# Altium integrated library Linear Technology Power Management Power Control.IntLib: 661 symbols (part 43 of 43)
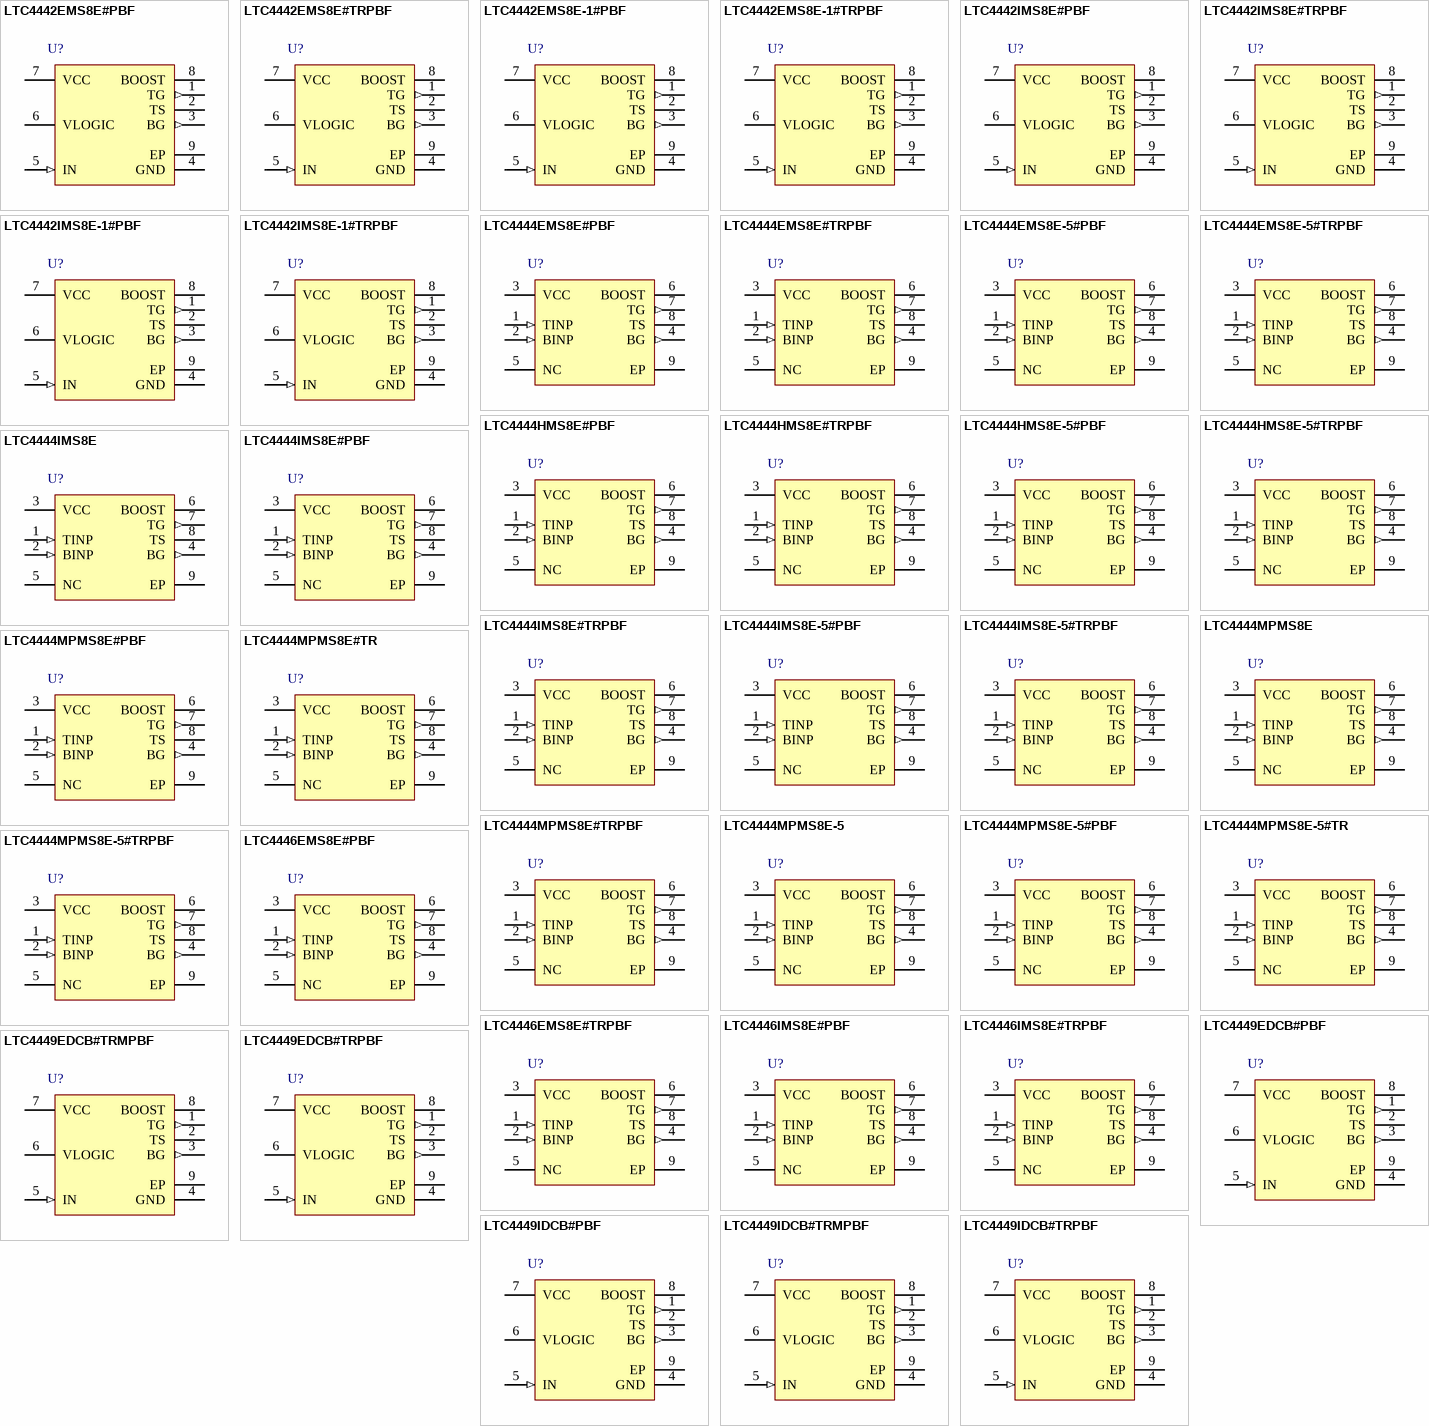
[diagram p61: symbols LTC4442EMS8E#PBF to LTC4449IDCB#TRPBF]

## LTC4444MPMS8E-5#TR
designator U?
High Voltage Synchronous N-Channel MOSFET Driver, 114 V Vin MAX, 8-pin SOP (MS8E-8-EDP), -55 to 150 degC, Tape and Reel; Manufacturer: Linear Technology; PartNumber: LTC4444MPMS8E-5#TR; DatasheetVersion: Rev. C; PackageVersion: Rev. J, 10/2011; PackageReference: MS8E-8; PackageDescription: 8-Pin Plastic MSOP, Body 3.00 x 3.00 mm. Pitch 0.65 mm; Packing: Tape and Reel; RoHS: FALSE; Mounting Technology: Surface Mount; ComponentLink1Description: Manufacturer URL; ComponentLink1URL: http://www.linear.com/; ComponentLink2Description: Datasheet; ComponentLink2URL: http://cds.linear.com/docs/en/datasheet/44445fc.pdf; ComponentLink3Description: Package Specification; ComponentLink3URL: http://cds.linear.com/docs/en/packaging/05081662_K_MS8E.pdf
footprint LT-MS8E-8-EDP_N (SOP, 8-Leads, Body 3.1x3.1mm, Pitch 0.65mm, Thermal Pad 1.88x1.68mm, IPC Medium Density)
footprint LT-MS8E-8-EDP_L (SOP, 8-Leads, Body 3.1x3.1mm, Pitch 0.65mm, Thermal Pad 1.88x1.68mm, IPC High Density)
footprint LT-MS8E-8-EDP_M (SOP, 8-Leads, Body 3.1x3.1mm, Pitch 0.65mm, Thermal Pad 1.88x1.68mm, IPC Low Density)
pins: 1 TINP (in) "High Side Input Signal. Input referenced to GND. This input controls the high side driver output (TG).", 2 BINP (in) "Low Side Input Signal. This input controls the low side driver output (BG).", 3 VCC (power) "Supply. This pin powers input buffers, logic and the low side gate driver output directly and the high side gate driver output through an external diode connected between this pin and BOOST (Pin 6). A low ESR ceramic bypass (See Datasheet)", 4 BG (out) "Low Side Gate Driver Output (Bottom Gate).This pin swings between VCC and GND.", 5 NC "No Connect. No connection required.", 6 BOOST "High Side Bootstrapped Supply. An external capacitor should be tied between this pin and TS (Pin 8). Normally, a bootstrap diode is connected between VCC (Pin 3) and this pin. Voltage swing at this pin is from VCC - VD to (See Datasheet)", 7 TG (out) "High Side Gate Driver Output (Top Gate). This pin swings between TS and BOOST.", 8 TS "High Side MOSFET Source Connection (TopSource)", 9 EP (power) "Ground. Must be soldered to PCB ground for optimal thermal performance."

## LTC4444MPMS8E-5#TRPBF
designator U?
High Voltage Synchronous N-Channel MOSFET Driver, 114 V Vin MAX, 8-pin SOP (MS8E-8-EDP), -55 to 150 degC, Pb-Free, Tape and Reel; Manufacturer: Linear Technology; PartNumber: LTC4444MPMS8E-5#TRPBF; DatasheetVersion: Rev. C; PackageVersion: Rev. J, 10/2011; PackageReference: MS8E-8; PackageDescription: 8-Pin Plastic MSOP, Body 3.00 x 3.00 mm. Pitch 0.65 mm; Supplier 1: Digi-Key; Supplier Part Number 1: LTC4444MPMS8E-5#TRPBF-ND; Packing: Tape and Reel; RoHS: TRUE; Mounting Technology: Surface Mount; ComponentLink1Description: Manufacturer URL; ComponentLink1URL: http://www.linear.com/; ComponentLink2Description: Datasheet; ComponentLink2URL: http://cds.linear.com/docs/en/datasheet/44445fc.pdf; ComponentLink3Description: Package Specification; ComponentLink3URL: http://cds.linear.com/docs/en/packaging/05081662_K_MS8E.pdf
footprint LT-MS8E-8-EDP_N (SOP, 8-Leads, Body 3.1x3.1mm, Pitch 0.65mm, Thermal Pad 1.88x1.68mm, IPC Medium Density)
footprint LT-MS8E-8-EDP_L (SOP, 8-Leads, Body 3.1x3.1mm, Pitch 0.65mm, Thermal Pad 1.88x1.68mm, IPC High Density)
footprint LT-MS8E-8-EDP_M (SOP, 8-Leads, Body 3.1x3.1mm, Pitch 0.65mm, Thermal Pad 1.88x1.68mm, IPC Low Density)
pins: 1 TINP (in) "High Side Input Signal. Input referenced to GND. This input controls the high side driver output (TG).", 2 BINP (in) "Low Side Input Signal. This input controls the low side driver output (BG).", 3 VCC (power) "Supply. This pin powers input buffers, logic and the low side gate driver output directly and the high side gate driver output through an external diode connected between this pin and BOOST (Pin 6). A low ESR ceramic bypass (See Datasheet)", 4 BG (out) "Low Side Gate Driver Output (Bottom Gate).This pin swings between VCC and GND.", 5 NC "No Connect. No connection required.", 6 BOOST "High Side Bootstrapped Supply. An external capacitor should be tied between this pin and TS (Pin 8). Normally, a bootstrap diode is connected between VCC (Pin 3) and this pin. Voltage swing at this pin is from VCC - VD to (See Datasheet)", 7 TG (out) "High Side Gate Driver Output (Top Gate). This pin swings between TS and BOOST.", 8 TS "High Side MOSFET Source Connection (TopSource)", 9 EP (power) "Ground. Must be soldered to PCB ground for optimal thermal performance."

## LTC4446EMS8E#PBF
designator U?
High Voltage High Side / Low Side N-Channel MOSFET Driver, 114 V Vin MAX, 8-pin SOP (MS8E-8), -40 to 85 degC, Pb-Free; Manufacturer: Linear Technology; PartNumber: LTC4446EMS8E#PBF; PackageVersion: Rev. E; PackageReference: MS8E-8; PackageDescription: 8-Pin Plastic MSOP, Exposed Die Pad, Body 3 x 3 mm, Pitch 0.65 mm; Supplier 1: Digi-Key; Supplier Part Number 1: LTC4446EMS8E#PBF-ND; Supplier 2: Farnell; Supplier Part Number 2: 1715080; Supplier 3: Newark; Supplier Part Number 3: 01N6429; RoHS: TRUE; Mounting Technology: Surface Mount; ComponentLink1Description: Manufacturer URL; ComponentLink1URL: http://www.linear.com/; ComponentLink2Description: Datasheet; ComponentLink2URL: http://cds.linear.com/docs/en/datasheet/4446f.pdf; ComponentLink3Description: Package Specification; ComponentLink3URL: http://cds.linear.com/docs/en/datasheet/4070fc.pdf
footprint LT-MS8E-8-2060X1830TP_N (SOP, 8-Leads, Body 3.1x3.1mm, Pitch 0.65mm, Thermal Pad 2.162x1.932mm, IPC Medium Density)
footprint LT-MS8E-8-2060X1830TP_L (SOP, 8-Leads, Body 3.1x3.1mm, Pitch 0.65mm, Thermal Pad 2.162x1.932mm, IPC High Density)
footprint LT-MS8E-8-2060X1830TP_M (SOP, 8-Leads, Body 3.1x3.1mm, Pitch 0.65mm, Thermal Pad 2.162x1.932mm, IPC Low Density)
pins: 1 TINP (in) "High Side Input Signal. Input referenced to GND. This input controls the high side driver output (TG).", 2 BINP (in) "Low Side Input Signal. This input controls the low side driver output (BG).", 3 VCC (power) "Supply. This pin powers input buffers, logic and the low side gate driver output directly and the high side gate driver output through an external diode connected between this pin and BOOST (Pin 6). A low ESR ceramic bypass (See Datasheet)", 4 BG (out) "Low Side Gate Driver Output (Bottom Gate).This pin swings between VCC and GND.", 5 NC "No Connect. No connection required.", 6 BOOST "High Side Bootstrapped Supply. An external capacitor should be tied between this pin and TS (Pin 8). Normally, a bootstrap diode is connected between VCC (Pin 3) and this pin. Voltage swing at this pin is from VCC - VD to (See Datasheet)", 7 TG (out) "High Side Gate Driver Output (Top Gate). This pin swings between TS and BOOST.", 8 TS "High Side MOSFET Source Connection (TopSource)", 9 EP (power) "Ground. Must be soldered to PCB ground for optimal thermal performance."

## LTC4446EMS8E#TRPBF
designator U?
High Voltage High Side / Low Side N-Channel MOSFET Driver, 114 V Vin MAX, 8-pin SOP (MS8E-8), -40 to 85 degC, Pb-Free, Tape and Reel; Manufacturer: Linear Technology; PartNumber: LTC4446EMS8E#TRPBF; PackageVersion: Rev. E; PackageReference: MS8E-8; PackageDescription: 8-Pin Plastic MSOP, Exposed Die Pad, Body 3 x 3 mm, Pitch 0.65 mm; Supplier 1: Digi-Key; Supplier Part Number 1: LTC4446EMS8E#TRPBF-ND; Packing: Tape and Reel; RoHS: TRUE; Mounting Technology: Surface Mount; ComponentLink1Description: Manufacturer URL; ComponentLink1URL: http://www.linear.com/; ComponentLink2Description: Datasheet; ComponentLink2URL: http://cds.linear.com/docs/en/datasheet/4446f.pdf; ComponentLink3Description: Package Specification; ComponentLink3URL: http://cds.linear.com/docs/en/datasheet/4070fc.pdf
footprint LT-MS8E-8-2060X1830TP_N (SOP, 8-Leads, Body 3.1x3.1mm, Pitch 0.65mm, Thermal Pad 2.162x1.932mm, IPC Medium Density)
footprint LT-MS8E-8-2060X1830TP_L (SOP, 8-Leads, Body 3.1x3.1mm, Pitch 0.65mm, Thermal Pad 2.162x1.932mm, IPC High Density)
footprint LT-MS8E-8-2060X1830TP_M (SOP, 8-Leads, Body 3.1x3.1mm, Pitch 0.65mm, Thermal Pad 2.162x1.932mm, IPC Low Density)
pins: 1 TINP (in) "High Side Input Signal. Input referenced to GND. This input controls the high side driver output (TG).", 2 BINP (in) "Low Side Input Signal. This input controls the low side driver output (BG).", 3 VCC (power) "Supply. This pin powers input buffers, logic and the low side gate driver output directly and the high side gate driver output through an external diode connected between this pin and BOOST (Pin 6). A low ESR ceramic bypass (See Datasheet)", 4 BG (out) "Low Side Gate Driver Output (Bottom Gate).This pin swings between VCC and GND.", 5 NC "No Connect. No connection required.", 6 BOOST "High Side Bootstrapped Supply. An external capacitor should be tied between this pin and TS (Pin 8). Normally, a bootstrap diode is connected between VCC (Pin 3) and this pin. Voltage swing at this pin is from VCC - VD to (See Datasheet)", 7 TG (out) "High Side Gate Driver Output (Top Gate). This pin swings between TS and BOOST.", 8 TS "High Side MOSFET Source Connection (TopSource)", 9 EP (power) "Ground. Must be soldered to PCB ground for optimal thermal performance."

## LTC4446IMS8E#PBF
designator U?
High Voltage High Side / Low Side N-Channel MOSFET Driver, 114 V Vin MAX, 8-pin SOP (MS8E-8), -40 to 85 degC, Pb-Free; Manufacturer: Linear Technology; PartNumber: LTC4446IMS8E#PBF; PackageVersion: Rev. E; PackageReference: MS8E-8; PackageDescription: 8-Pin Plastic MSOP, Exposed Die Pad, Body 3 x 3 mm, Pitch 0.65 mm; Supplier 1: Digi-Key; Supplier Part Number 1: LTC4446IMS8E#PBF-ND; RoHS: TRUE; Mounting Technology: Surface Mount; ComponentLink1Description: Manufacturer URL; ComponentLink1URL: http://www.linear.com/; ComponentLink2Description: Datasheet; ComponentLink2URL: http://cds.linear.com/docs/en/datasheet/4446f.pdf; ComponentLink3Description: Package Specification; ComponentLink3URL: http://cds.linear.com/docs/en/datasheet/4070fc.pdf
footprint LT-MS8E-8-2060X1830TP_N (SOP, 8-Leads, Body 3.1x3.1mm, Pitch 0.65mm, Thermal Pad 2.162x1.932mm, IPC Medium Density)
footprint LT-MS8E-8-2060X1830TP_L (SOP, 8-Leads, Body 3.1x3.1mm, Pitch 0.65mm, Thermal Pad 2.162x1.932mm, IPC High Density)
footprint LT-MS8E-8-2060X1830TP_M (SOP, 8-Leads, Body 3.1x3.1mm, Pitch 0.65mm, Thermal Pad 2.162x1.932mm, IPC Low Density)
pins: 1 TINP (in) "High Side Input Signal. Input referenced to GND. This input controls the high side driver output (TG).", 2 BINP (in) "Low Side Input Signal. This input controls the low side driver output (BG).", 3 VCC (power) "Supply. This pin powers input buffers, logic and the low side gate driver output directly and the high side gate driver output through an external diode connected between this pin and BOOST (Pin 6). A low ESR ceramic bypass (See Datasheet)", 4 BG (out) "Low Side Gate Driver Output (Bottom Gate).This pin swings between VCC and GND.", 5 NC "No Connect. No connection required.", 6 BOOST "High Side Bootstrapped Supply. An external capacitor should be tied between this pin and TS (Pin 8). Normally, a bootstrap diode is connected between VCC (Pin 3) and this pin. Voltage swing at this pin is from VCC - VD to (See Datasheet)", 7 TG (out) "High Side Gate Driver Output (Top Gate). This pin swings between TS and BOOST.", 8 TS "High Side MOSFET Source Connection (TopSource)", 9 EP (power) "Ground. Must be soldered to PCB ground for optimal thermal performance."

## LTC4446IMS8E#TRPBF
designator U?
High Voltage High Side / Low Side N-Channel MOSFET Driver, 114 V Vin MAX, 8-pin SOP (MS8E-8), -40 to 85 degC, Pb-Free, Tape and Reel; Manufacturer: Linear Technology; PartNumber: LTC4446IMS8E#TRPBF; PackageVersion: Rev. E; PackageReference: MS8E-8; PackageDescription: 8-Pin Plastic MSOP, Exposed Die Pad, Body 3 x 3 mm, Pitch 0.65 mm; Supplier 1: Digi-Key; Supplier Part Number 1: LTC4446IMS8E#TRPBF-ND; Supplier 2: Newark; Supplier Part Number 2: 01N6432; Packing: Tape and Reel; RoHS: TRUE; Mounting Technology: Surface Mount; ComponentLink1Description: Manufacturer URL; ComponentLink1URL: http://www.linear.com/; ComponentLink2Description: Datasheet; ComponentLink2URL: http://cds.linear.com/docs/en/datasheet/4446f.pdf; ComponentLink3Description: Package Specification; ComponentLink3URL: http://cds.linear.com/docs/en/datasheet/4070fc.pdf
footprint LT-MS8E-8-2060X1830TP_N (SOP, 8-Leads, Body 3.1x3.1mm, Pitch 0.65mm, Thermal Pad 2.162x1.932mm, IPC Medium Density)
footprint LT-MS8E-8-2060X1830TP_L (SOP, 8-Leads, Body 3.1x3.1mm, Pitch 0.65mm, Thermal Pad 2.162x1.932mm, IPC High Density)
footprint LT-MS8E-8-2060X1830TP_M (SOP, 8-Leads, Body 3.1x3.1mm, Pitch 0.65mm, Thermal Pad 2.162x1.932mm, IPC Low Density)
pins: 1 TINP (in) "High Side Input Signal. Input referenced to GND. This input controls the high side driver output (TG).", 2 BINP (in) "Low Side Input Signal. This input controls the low side driver output (BG).", 3 VCC (power) "Supply. This pin powers input buffers, logic and the low side gate driver output directly and the high side gate driver output through an external diode connected between this pin and BOOST (Pin 6). A low ESR ceramic bypass (See Datasheet)", 4 BG (out) "Low Side Gate Driver Output (Bottom Gate).This pin swings between VCC and GND.", 5 NC "No Connect. No connection required.", 6 BOOST "High Side Bootstrapped Supply. An external capacitor should be tied between this pin and TS (Pin 8). Normally, a bootstrap diode is connected between VCC (Pin 3) and this pin. Voltage swing at this pin is from VCC - VD to (See Datasheet)", 7 TG (out) "High Side Gate Driver Output (Top Gate). This pin swings between TS and BOOST.", 8 TS "High Side MOSFET Source Connection (TopSource)", 9 EP (power) "Ground. Must be soldered to PCB ground for optimal thermal performance."

## LTC4449EDCB#PBF
designator U?
High Speed Synchronous N-Channel MOSFET Driver, 38 V Vin MAX, 8-pin SON (DCB-8), -40 to 125 degC, Pb-Free; Manufacturer: Linear Technology; PartNumber: LTC4449EDCB#PBF; DatasheetVersion: Rev. A; PackageVersion: Rev. A, 06/2010; PackageReference: DCB-8; PackageDescription: 8-Pin Plastic DFN, Body 2 x 3 mm, Pitch 0.45 mm; Supplier 1: Newark; Supplier Part Number 1: 64R5085; RoHS: TRUE; Mounting Technology: Surface Mount; ComponentLink1Description: Manufacturer URL; ComponentLink1URL: http://www.linear.com/; ComponentLink2Description: Datasheet; ComponentLink2URL: http://cds.linear.com/docs/en/datasheet/4449fa.pdf; ComponentLink3Description: Package Specification; ComponentLink3URL: http://cds.linear.com/docs/en/packaging/DFN_8_05-08-1718.pdf
footprint LT-DCB-8_V (SON, 8-Leads, Body 3x2mm, Pitch 0.45mm, Thermal Pad 1.65x1.35mm)
pins: 1 TG (out) "High Side Gate Driver Output (Top Gate). This pin swings between TS and BOOST.", 2 TS "High Side MOSFET Source Connection (TopSource)", 3 BG (out) "Low Side Gate Driver Output (Bottom Gate).This pin swings between VCC and GND.", 4 GND (power) "Chip Ground.", 5 IN (in) "Input Signal. Input referenced to an internal supply baised off of VLOGIC (Pin 6) and GND. If this pin is floating, an internal resistive divider triggers a shutdown mode in which both BG (Pin 3) and TG (Pin 1) are pulled (See Datasheet)", 6 VLOGIC (power) "Logic Supply. This pin powers the input buffer and logic. Connect this pin to the power supply of the controller that is driving IN (Pin 5) to match input thresholds or to VCC (Pin 7) to simplify PCB routing", 7 VCC (power) "Output Driver Supply. This pin powers the low side gate driver output directly and the high side gate driver output through an external Schottky diode connected between this pin and BOOST. A low ESR ceramic bypass capacitor (See Datasheet)", 8 BOOST "High Side Bootstrapped Supply. An external capacitor should be tied between this pin and TS (Pin 2). Normally an external Schottky diode is connected between VCC (Pin 7) and this pin. Voltage swing at this pin is from VCC - (See Datasheet)", 9 EP (power) "The exposed pad must be soldered to PCB ground for optimal electrical and thermal performance"

## LTC4449EDCB#TRMPBF
designator U?
High Speed Synchronous N-Channel MOSFET Driver, 38 V Vin MAX, 8-pin SON (DCB-8), -40 to 125 degC, Pb-Free, Mini Tape and Reel; Manufacturer: Linear Technology; PartNumber: LTC4449EDCB#TRMPBF; DatasheetVersion: Rev. A; PackageVersion: Rev. A, 06/2010; PackageReference: DCB-8; PackageDescription: 8-Pin Plastic DFN, Body 2 x 3 mm, Pitch 0.45 mm; Supplier 1: Digi-Key; Supplier Part Number 1: LTC4449EDCB#TRMPBFTR-ND; Supplier 2: Digi-Key; Supplier Part Number 2: LTC4449EDCB#TRMPBFCT-ND; Supplier 3: Digi-Key; Supplier Part Number 3: LTC4449EDCB#TRMPBFDKR-ND; Supplier 4: Newark; Supplier Part Number 4: 63R6819; Packing: Mini Tape and Reel; RoHS: TRUE; Mounting Technology: Surface Mount; ComponentLink1Description: Manufacturer URL; ComponentLink1URL: http://www.linear.com/; ComponentLink2Description: Datasheet; ComponentLink2URL: http://cds.linear.com/docs/en/datasheet/4449fa.pdf; ComponentLink3Description: Package Specification; ComponentLink3URL: http://cds.linear.com/docs/en/packaging/DFN_8_05-08-1718.pdf
footprint LT-DCB-8_V (SON, 8-Leads, Body 3x2mm, Pitch 0.45mm, Thermal Pad 1.65x1.35mm)
pins: 1 TG (out) "High Side Gate Driver Output (Top Gate). This pin swings between TS and BOOST.", 2 TS "High Side MOSFET Source Connection (TopSource)", 3 BG (out) "Low Side Gate Driver Output (Bottom Gate).This pin swings between VCC and GND.", 4 GND (power) "Chip Ground.", 5 IN (in) "Input Signal. Input referenced to an internal supply baised off of VLOGIC (Pin 6) and GND. If this pin is floating, an internal resistive divider triggers a shutdown mode in which both BG (Pin 3) and TG (Pin 1) are pulled (See Datasheet)", 6 VLOGIC (power) "Logic Supply. This pin powers the input buffer and logic. Connect this pin to the power supply of the controller that is driving IN (Pin 5) to match input thresholds or to VCC (Pin 7) to simplify PCB routing", 7 VCC (power) "Output Driver Supply. This pin powers the low side gate driver output directly and the high side gate driver output through an external Schottky diode connected between this pin and BOOST. A low ESR ceramic bypass capacitor (See Datasheet)", 8 BOOST "High Side Bootstrapped Supply. An external capacitor should be tied between this pin and TS (Pin 2). Normally an external Schottky diode is connected between VCC (Pin 7) and this pin. Voltage swing at this pin is from VCC - (See Datasheet)", 9 EP (power) "The exposed pad must be soldered to PCB ground for optimal electrical and thermal performance"

## LTC4449EDCB#TRPBF
designator U?
High Speed Synchronous N-Channel MOSFET Driver, 38 V Vin MAX, 8-pin SON (DCB-8), -40 to 125 degC, Pb-Free, Tape and Reel; Manufacturer: Linear Technology; PartNumber: LTC4449EDCB#TRPBF; DatasheetVersion: Rev. A; PackageVersion: Rev. A, 06/2010; PackageReference: DCB-8; PackageDescription: 8-Pin Plastic DFN, Body 2 x 3 mm, Pitch 0.45 mm; Supplier 1: Digi-Key; Supplier Part Number 1: LTC4449EDCB#TRPBF-ND; Packing: Tape and Reel; RoHS: TRUE; Mounting Technology: Surface Mount; ComponentLink1Description: Manufacturer URL; ComponentLink1URL: http://www.linear.com/; ComponentLink2Description: Datasheet; ComponentLink2URL: http://cds.linear.com/docs/en/datasheet/4449fa.pdf; ComponentLink3Description: Package Specification; ComponentLink3URL: http://cds.linear.com/docs/en/packaging/DFN_8_05-08-1718.pdf
footprint LT-DCB-8_V (SON, 8-Leads, Body 3x2mm, Pitch 0.45mm, Thermal Pad 1.65x1.35mm)
pins: 1 TG (out) "High Side Gate Driver Output (Top Gate). This pin swings between TS and BOOST.", 2 TS "High Side MOSFET Source Connection (TopSource)", 3 BG (out) "Low Side Gate Driver Output (Bottom Gate).This pin swings between VCC and GND.", 4 GND (power) "Chip Ground.", 5 IN (in) "Input Signal. Input referenced to an internal supply baised off of VLOGIC (Pin 6) and GND. If this pin is floating, an internal resistive divider triggers a shutdown mode in which both BG (Pin 3) and TG (Pin 1) are pulled (See Datasheet)", 6 VLOGIC (power) "Logic Supply. This pin powers the input buffer and logic. Connect this pin to the power supply of the controller that is driving IN (Pin 5) to match input thresholds or to VCC (Pin 7) to simplify PCB routing", 7 VCC (power) "Output Driver Supply. This pin powers the low side gate driver output directly and the high side gate driver output through an external Schottky diode connected between this pin and BOOST. A low ESR ceramic bypass capacitor (See Datasheet)", 8 BOOST "High Side Bootstrapped Supply. An external capacitor should be tied between this pin and TS (Pin 2). Normally an external Schottky diode is connected between VCC (Pin 7) and this pin. Voltage swing at this pin is from VCC - (See Datasheet)", 9 EP (power) "The exposed pad must be soldered to PCB ground for optimal electrical and thermal performance"

## LTC4449IDCB#PBF
designator U?
High Speed Synchronous N-Channel MOSFET Driver, 38 V Vin MAX, 8-pin SON (DCB-8), -40 to 125 degC, Pb-Free; Manufacturer: Linear Technology; PartNumber: LTC4449IDCB#PBF; DatasheetVersion: Rev. A; PackageVersion: Rev. A, 06/2010; PackageReference: DCB-8; PackageDescription: 8-Pin Plastic DFN, Body 2 x 3 mm, Pitch 0.45 mm; Supplier 1: Farnell; Supplier Part Number 1: 2294867; Supplier 2: Newark; Supplier Part Number 2: 78T3434; RoHS: TRUE; Mounting Technology: Surface Mount; ComponentLink1Description: Manufacturer URL; ComponentLink1URL: http://www.linear.com/; ComponentLink2Description: Datasheet; ComponentLink2URL: http://cds.linear.com/docs/en/datasheet/4449fa.pdf; ComponentLink3Description: Package Specification; ComponentLink3URL: http://cds.linear.com/docs/en/packaging/DFN_8_05-08-1718.pdf
footprint LT-DCB-8_V (SON, 8-Leads, Body 3x2mm, Pitch 0.45mm, Thermal Pad 1.65x1.35mm)
pins: 1 TG (out) "High Side Gate Driver Output (Top Gate). This pin swings between TS and BOOST.", 2 TS "High Side MOSFET Source Connection (TopSource)", 3 BG (out) "Low Side Gate Driver Output (Bottom Gate).This pin swings between VCC and GND.", 4 GND (power) "Chip Ground.", 5 IN (in) "Input Signal. Input referenced to an internal supply baised off of VLOGIC (Pin 6) and GND. If this pin is floating, an internal resistive divider triggers a shutdown mode in which both BG (Pin 3) and TG (Pin 1) are pulled (See Datasheet)", 6 VLOGIC (power) "Logic Supply. This pin powers the input buffer and logic. Connect this pin to the power supply of the controller that is driving IN (Pin 5) to match input thresholds or to VCC (Pin 7) to simplify PCB routing", 7 VCC (power) "Output Driver Supply. This pin powers the low side gate driver output directly and the high side gate driver output through an external Schottky diode connected between this pin and BOOST. A low ESR ceramic bypass capacitor (See Datasheet)", 8 BOOST "High Side Bootstrapped Supply. An external capacitor should be tied between this pin and TS (Pin 2). Normally an external Schottky diode is connected between VCC (Pin 7) and this pin. Voltage swing at this pin is from VCC - (See Datasheet)", 9 EP (power) "The exposed pad must be soldered to PCB ground for optimal electrical and thermal performance"

## LTC4449IDCB#TRMPBF
designator U?
High Speed Synchronous N-Channel MOSFET Driver, 38 V Vin MAX, 8-pin SON (DCB-8), -40 to 125 degC, Pb-Free, Mini Tape and Reel; Manufacturer: Linear Technology; PartNumber: LTC4449IDCB#TRMPBF; DatasheetVersion: Rev. A; PackageVersion: Rev. A, 06/2010; PackageReference: DCB-8; PackageDescription: 8-Pin Plastic DFN, Body 2 x 3 mm, Pitch 0.45 mm; Supplier 1: Digi-Key; Supplier Part Number 1: LTC4449IDCB#TRMPBF-ND; Supplier 2: Newark; Supplier Part Number 2: 63R6821; Packing: Mini Tape and Reel; RoHS: TRUE; Mounting Technology: Surface Mount; ComponentLink1Description: Manufacturer URL; ComponentLink1URL: http://www.linear.com/; ComponentLink2Description: Datasheet; ComponentLink2URL: http://cds.linear.com/docs/en/datasheet/4449fa.pdf; ComponentLink3Description: Package Specification; ComponentLink3URL: http://cds.linear.com/docs/en/packaging/DFN_8_05-08-1718.pdf
footprint LT-DCB-8_V (SON, 8-Leads, Body 3x2mm, Pitch 0.45mm, Thermal Pad 1.65x1.35mm)
pins: 1 TG (out) "High Side Gate Driver Output (Top Gate). This pin swings between TS and BOOST.", 2 TS "High Side MOSFET Source Connection (TopSource)", 3 BG (out) "Low Side Gate Driver Output (Bottom Gate).This pin swings between VCC and GND.", 4 GND (power) "Chip Ground.", 5 IN (in) "Input Signal. Input referenced to an internal supply baised off of VLOGIC (Pin 6) and GND. If this pin is floating, an internal resistive divider triggers a shutdown mode in which both BG (Pin 3) and TG (Pin 1) are pulled (See Datasheet)", 6 VLOGIC (power) "Logic Supply. This pin powers the input buffer and logic. Connect this pin to the power supply of the controller that is driving IN (Pin 5) to match input thresholds or to VCC (Pin 7) to simplify PCB routing", 7 VCC (power) "Output Driver Supply. This pin powers the low side gate driver output directly and the high side gate driver output through an external Schottky diode connected between this pin and BOOST. A low ESR ceramic bypass capacitor (See Datasheet)", 8 BOOST "High Side Bootstrapped Supply. An external capacitor should be tied between this pin and TS (Pin 2). Normally an external Schottky diode is connected between VCC (Pin 7) and this pin. Voltage swing at this pin is from VCC - (See Datasheet)", 9 EP (power) "The exposed pad must be soldered to PCB ground for optimal electrical and thermal performance"

## LTC4449IDCB#TRPBF
designator U?
High Speed Synchronous N-Channel MOSFET Driver, 38 V Vin MAX, 8-pin SON (DCB-8), -40 to 125 degC, Pb-Free, Tape and Reel; Manufacturer: Linear Technology; PartNumber: LTC4449IDCB#TRPBF; DatasheetVersion: Rev. A; PackageVersion: Rev. A, 06/2010; PackageReference: DCB-8; PackageDescription: 8-Pin Plastic DFN, Body 2 x 3 mm, Pitch 0.45 mm; Supplier 1: Digi-Key; Supplier Part Number 1: LTC4449IDCB#TRPBF-ND; Packing: Tape and Reel; RoHS: TRUE; Mounting Technology: Surface Mount; ComponentLink1Description: Manufacturer URL; ComponentLink1URL: http://www.linear.com/; ComponentLink2Description: Datasheet; ComponentLink2URL: http://cds.linear.com/docs/en/datasheet/4449fa.pdf; ComponentLink3Description: Package Specification; ComponentLink3URL: http://cds.linear.com/docs/en/packaging/DFN_8_05-08-1718.pdf
footprint LT-DCB-8_V (SON, 8-Leads, Body 3x2mm, Pitch 0.45mm, Thermal Pad 1.65x1.35mm)
pins: 1 TG (out) "High Side Gate Driver Output (Top Gate). This pin swings between TS and BOOST.", 2 TS "High Side MOSFET Source Connection (TopSource)", 3 BG (out) "Low Side Gate Driver Output (Bottom Gate).This pin swings between VCC and GND.", 4 GND (power) "Chip Ground.", 5 IN (in) "Input Signal. Input referenced to an internal supply baised off of VLOGIC (Pin 6) and GND. If this pin is floating, an internal resistive divider triggers a shutdown mode in which both BG (Pin 3) and TG (Pin 1) are pulled (See Datasheet)", 6 VLOGIC (power) "Logic Supply. This pin powers the input buffer and logic. Connect this pin to the power supply of the controller that is driving IN (Pin 5) to match input thresholds or to VCC (Pin 7) to simplify PCB routing", 7 VCC (power) "Output Driver Supply. This pin powers the low side gate driver output directly and the high side gate driver output through an external Schottky diode connected between this pin and BOOST. A low ESR ceramic bypass capacitor (See Datasheet)", 8 BOOST "High Side Bootstrapped Supply. An external capacitor should be tied between this pin and TS (Pin 2). Normally an external Schottky diode is connected between VCC (Pin 7) and this pin. Voltage swing at this pin is from VCC - (See Datasheet)", 9 EP (power) "The exposed pad must be soldered to PCB ground for optimal electrical and thermal performance"